# Altium footprint library CORE28335.PcbLib: 24 footprints (part 1 of 2)
Each footprint in its own frame and in the unit in brackets; x right, y up, seen from the top. Pads: shape width x height; smd on the part's side, far side on the other; paste and mask are expansions set on the pad; w line width, h text height; cw(c..) or ccw(c..) is an arc to the next point about the centre after c.
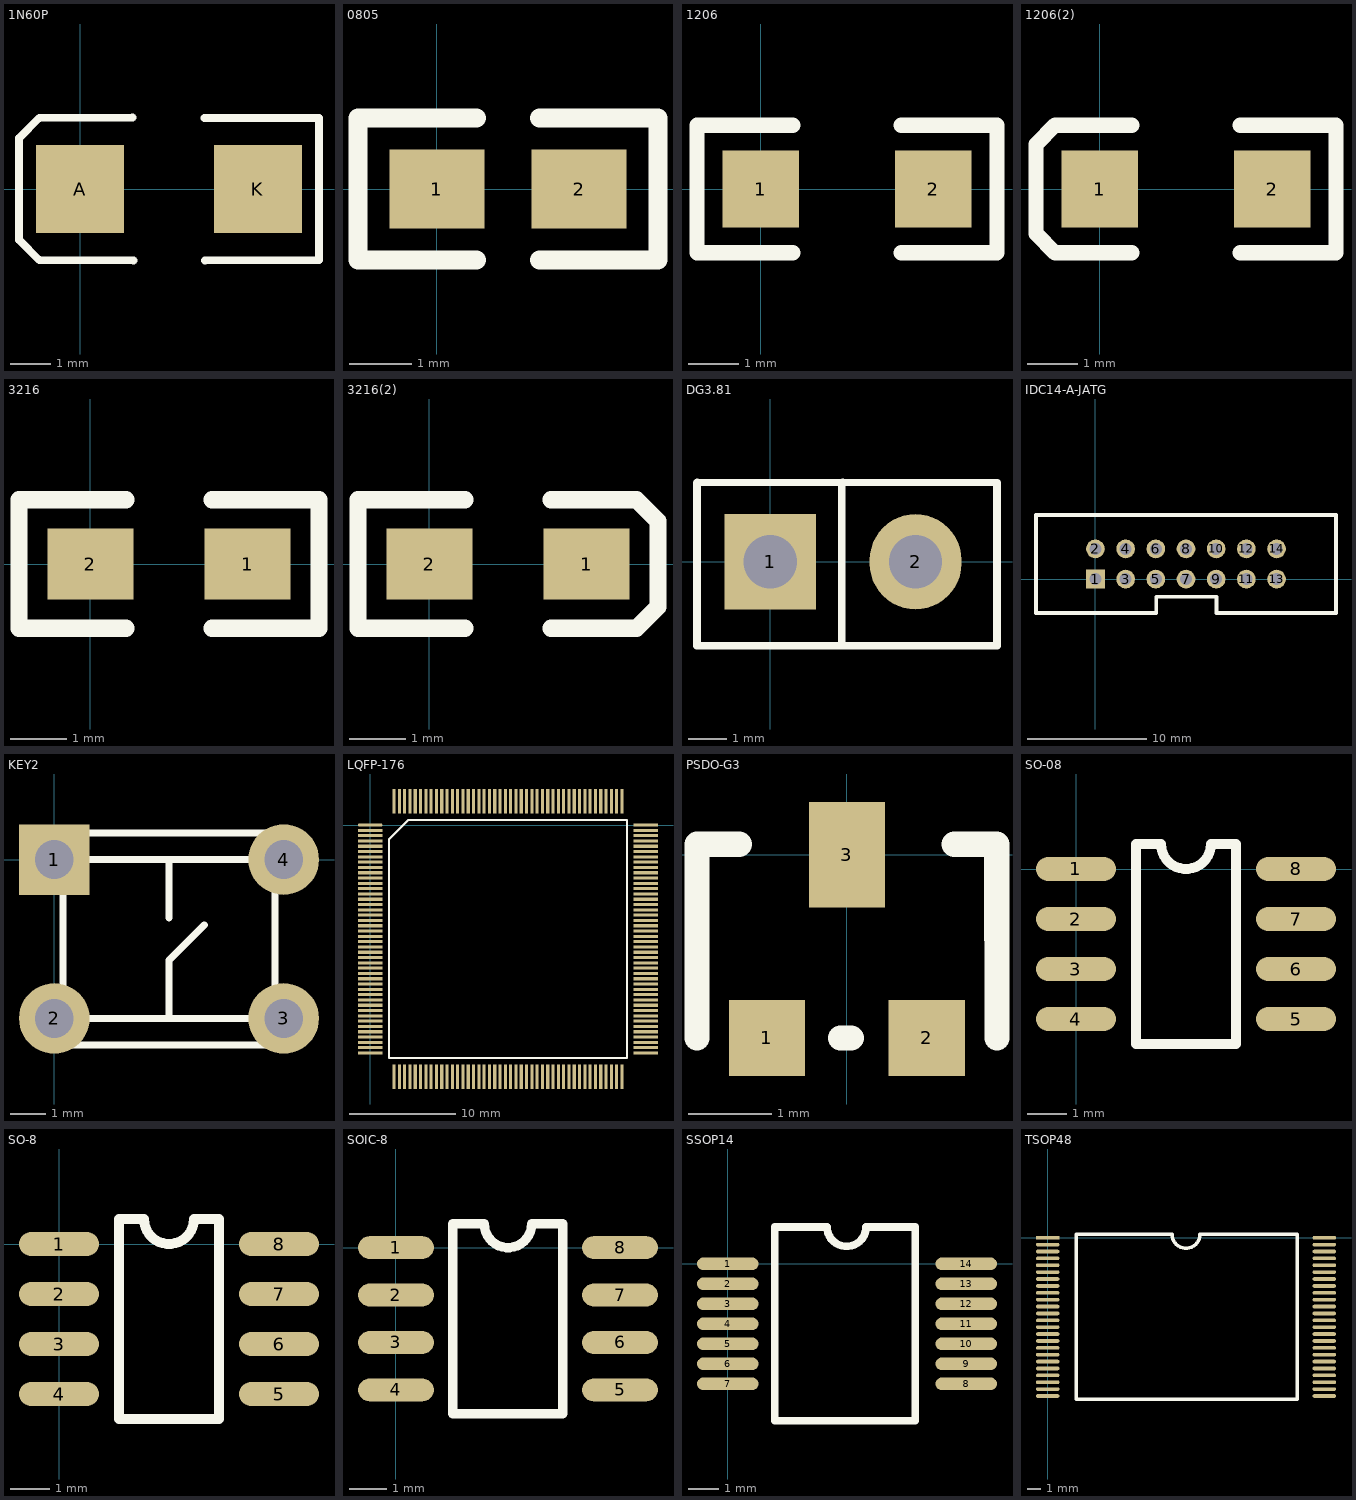
[diagram p0: the footprints below, top view; thin cyan lines are the x and y axes]

## 1N60P [mm]
pads (2):
  rect 2.2x2.2 smd: A(0,0) K(4.445,0)
Top Overlay:
  lines w0.2: 1.31,1.78 -1.016,1.778 -1.524,1.27 -1.524,-1.27 -1.016,-1.778 1.34,-1.78 ; 3.11,1.77 5.97,1.77 5.969,-1.778 3.12,-1.78

## 0805 [mil]
pads (2):
  rect 60x50 smd: 1(0,0.28) 2(90,0.28)
Top Overlay:
  lines w12: 25,-44.72 -50,-44.72 -50,45.28 25,45.28 ; 65,-44.72 140,-44.72 140,45.28 65,45.28

## 1206 [mil]
pads (2):
  rect 60x60 smd: 1(0,0.01) 2(135,0.01)
Top Overlay:
  lines w12: 25,-49.99 -50,-49.99 -50,50.01 25,50.01 ; 110,-49.99 185,-49.99 185,50.01 110,50.01

## 1206(2) [mil]
pads (2):
  rect 60x60 smd: 1(0,0.01) 2(135,0.01)
Top Overlay:
  lines w12: 25,-49.99 -20,-49.99 -35,-49.99 -50,-34.99 -50,35.01 -35,50.01 -20,50.01 25,50.01 ; 110,-49.99 185,-49.99 185,50.01 110,50.01

## 3216 [mil]
pads (2):
  rect 60x50 smd: 1(110,0.01) 2(0,0.01)
Top Overlay:
  lines w12: 25,-44.99 -50,-44.99 -50,45.01 25,45.01 ; 85,-44.99 160,-44.99 160,45.01 85,45.01

## 3216(2) [mil]
pads (2):
  rect 60x50 smd: 1(110,0.01) 2(0,0.01)
Top Overlay:
  lines w12: 25,-44.99 -50,-44.99 -50,45.01 25,45.01 ; 85,-44.99 145,-44.99 160,-29.99 160,30.01 145,45.01 85,45.01

## DG3.81 [mm]
pads (2):
  rect 2.4x2.5 hole 1.397: 1(0,0)
  oval 2.4x2.5 hole 1.397: 2(3.81,0)
Top Overlay:
  lines w0.2: 1.875,-2.2 1.875,2.06 1.9,2.085 ; -1.915,-2.2 5.944,-2.2 5.944,2.075 -1.905,2.085 -1.915,2.075 -1.915,-2.2

## IDC14-A-JATG [mil]
pads (14):
  rect 62x62 hole 40: 1(0.13,0.01)
  round 62 hole 40: 2(0.13,100.01) 3(100.13,0.01) 4(100.13,100.01) 5(200.13,0.01) 6(200.13,100.01) 7(300.13,0.01) 8(300.13,100.01) 9(400.13,0.01) 10(400.13,100.01) 11(500.13,0.01) 12(500.13,100.01) 13(600.13,0.01) 14(600.13,100.01)
Top Overlay:
  lines w12: -196.72,-112.2 -196.72,212.21 796.98,212.21 796.98,-112.2 401.13,-112.2 401.33,-59.05 201.33,-59.05 201.33,-112.2 -196.72,-112.2

## KEY2 [mm]
pads (4):
  rect 2x2 hole 1.1: 1(0,0)
  round 2 hole 1.1: 2(0,-4.5) 3(6.5,-4.5) 4(6.5,0)
Top Overlay:
  lines w0.203: 0,-4.5 6.5,-4.5 ; 0,0 6.5,0 ; 3.25,-4.5 3.25,-3.15 3.25,-2.85 4.25,-1.85 ; 3.25,-1.65 3.25,0 ; 0.25,-5.25 6.25,-5.25 6.25,0.75 0.25,0.75 0.25,-5.25

## LQFP-176 [mm]
pads (176):
  oval 2.3x0.3 smd: 1(0,0)
  rect 2.3x0.3 smd: 2(0,-0.5) 3(0,-1) 4(0,-1.5) 5(0,-2) 6(0,-2.5) 7(0,-3) 8(0,-3.5) 9(0,-4) 10(0,-4.5) 11(0,-5) 12(0,-5.5) 13(0,-6) 14(0,-6.5) 15(0,-7) 16(0,-7.5) 17(0,-8) 18(0,-8.5) 19(0,-9) 20(0,-9.5) 21(0,-10) 22(0,-10.5) 23(0,-11) 24(0,-11.5) 25(0,-12) 26(0,-12.5) 27(0,-13) 28(0,-13.5) 29(0,-14) 30(0,-14.5) 31(0,-15) 32(0,-15.5) 33(0,-16) 34(0,-16.5) 35(0,-17) 36(0,-17.5) 37(0,-18) 38(0,-18.5) 39(0,-19) 40(0,-19.5) 41(0,-20) 42(0,-20.5) 43(0,-21) 44(0,-21.5) 89(26,-21.5) 90(26,-21) 91(26,-20.5) 92(26,-20) 93(26,-19.5) 94(26,-19) 95(26,-18.5) 96(26,-18) 97(26,-17.5) 98(26,-17) 99(26,-16.5) 100(26,-16) 101(26,-15.5) 102(26,-15) 103(26,-14.5) 104(26,-14) 105(26,-13.5) 106(26,-13) 107(26,-12.5) 108(26,-12) 109(26,-11.5) 110(26,-11) 111(26,-10.5) 112(26,-10) 113(26,-9.5) 114(26,-9) 115(26,-8.5) 116(26,-8) 117(26,-7.5) 118(26,-7) 119(26,-6.5) 120(26,-6) 121(26,-5.5) 122(26,-5) 123(26,-4.5) 124(26,-4) 125(26,-3.5) 126(26,-3) 127(26,-2.5) 128(26,-2) 129(26,-1.5) 130(26,-1) 131(26,-0.5) 132(26,0)
  rect 0.3x2.3 smd: 45(2.25,-23.75) 46(2.75,-23.75) 47(3.25,-23.75) 48(3.75,-23.75) 49(4.25,-23.75) 50(4.75,-23.75) 51(5.25,-23.75) 52(5.75,-23.75) 53(6.25,-23.75) 54(6.75,-23.75) 55(7.25,-23.75) 56(7.75,-23.75) 57(8.25,-23.75) 58(8.75,-23.75) 59(9.25,-23.75) 60(9.75,-23.75) 61(10.25,-23.75) 62(10.75,-23.75) 63(11.25,-23.75) 64(11.75,-23.75) 65(12.25,-23.75) 66(12.75,-23.75) 67(13.25,-23.75) 68(13.75,-23.75) 69(14.25,-23.75) 70(14.75,-23.75) 71(15.25,-23.75) 72(15.75,-23.75) 73(16.25,-23.75) 74(16.75,-23.75) 75(17.25,-23.75) 76(17.75,-23.75) 77(18.25,-23.75) 78(18.75,-23.75) 79(19.25,-23.75) 80(19.75,-23.75) 81(20.25,-23.75) 82(20.75,-23.75) 83(21.25,-23.75) 84(21.75,-23.75) 85(22.25,-23.75) 86(22.75,-23.75) 87(23.25,-23.75) 88(23.75,-23.75) 133(23.75,2.25) 134(23.25,2.25) 135(22.75,2.25) 136(22.25,2.25) 137(21.75,2.25) 138(21.25,2.25) 139(20.75,2.25) 140(20.25,2.25) 141(19.75,2.25) 142(19.25,2.25) 143(18.75,2.25) 144(18.25,2.25) 145(17.75,2.25) 146(17.25,2.25) 147(16.75,2.25) 148(16.25,2.25) 149(15.75,2.25) 150(15.25,2.25) 151(14.75,2.25) 152(14.25,2.25) 153(13.75,2.25) 154(13.25,2.25) 155(12.75,2.25) 156(12.25,2.25) 157(11.75,2.25) 158(11.25,2.25) 159(10.75,2.25) 160(10.25,2.25) 161(9.75,2.25) 162(9.25,2.25) 163(8.75,2.25) 164(8.25,2.25) 165(7.75,2.25) 166(7.25,2.25) 167(6.75,2.25) 168(6.25,2.25) 169(5.75,2.25) 170(5.25,2.25) 171(4.75,2.25) 172(4.25,2.25) 173(3.75,2.25) 174(3.25,2.25) 175(2.75,2.25) 176(2.25,2.25)
Top Overlay:
  lines w0.2: 1.785,-21.965 24.215,-21.965 24.215,0.465 3.57,0.465 1.785,-1.32 1.785,-21.965

## PSDO-G3 [mil]
pads (3):
  rect 36x36 smd: 1(-37.8,-86.61) 2(37.8,-86.61)
  rect 36x50 smd: 3(0,0)
Top Overlay:
  lines w12: -70.87,-86.61 -70.87,5 -50.87,5 ; -3,-86.61 2,-86.61 ; 50.87,5 70.87,5 71,-86.61

## SO-08 [mil]
pads (8):
  oval 80x24 smd: 1(-0.28,0.28) 2(-0.28,-49.72) 3(-0.28,-99.72) 4(-0.28,-149.72) 5(219.72,-149.72) 6(219.72,-99.72) 7(219.72,-49.72) 8(219.72,0.28)
Top Overlay:
  lines w10: 59.73,-174.72 159.72,-174.72 159.72,25.28 134.72,25.28 cw(c109.72,25.28) 84.72,25.28 59.73,25.28 59.73,-174.72

## SO-8 [mil]
pads (8):
  oval 80x24 smd: 1(0,0) 2(0,-50) 3(0,-100) 4(0,-150) 5(220,-150) 6(220,-100) 7(220,-50) 8(220,0)
Top Overlay:
  lines w10: 60,-175 60,25 85,25 ccw(c110,25) 135,25 160,25 160,-175 60,-175

## SOIC-8 [mil]
pads (8):
  oval 80x24 smd: 1(0,0.28) 2(0,-49.72) 3(0,-99.72) 4(0,-149.72) 5(236.22,-149.72) 6(236.22,-99.72) 7(236.22,-49.72) 8(236.22,0.28)
Top Overlay:
  lines w10: 60,-174.72 176,-174.72 176,25.28 143.11,25.28 cw(c118.11,25.28) 93.11,25.28 60,25.28 60,-174.72

## SSOP14 [mm]
pads (14):
  oval 2x0.406 smd: 1(0,0) 2(0,-0.65) 3(0,-1.3) 4(0,-1.95) 5(0,-2.6) 6(0,-3.25) 7(0,-3.9) 8(7.75,-3.9) 9(7.75,-3.25) 10(7.75,-2.6) 11(7.75,-1.95) 12(7.75,-1.3) 13(7.75,-0.65) 14(7.75,0)
Top Overlay:
  lines w0.254: 1.524,-5.1 1.524,1.2 3.226,1.2 ccw(c3.861,1.2) 4.496,1.2 6.096,1.2 6.096,-5.1 1.524,-5.1

## TSOP48 [mm]
pads (48):
  rect 1.7x0.269 smd: 1(0,0)
  oval 1.7x0.269 smd: 2(0,-0.5) 3(0,-1) 4(0,-1.5) 5(0,-2) 6(0,-2.5) 7(0,-3) 8(0,-3.5) 9(0,-4) 10(0,-4.5) 11(0,-5) 12(0,-5.5) 13(0,-6) 14(0,-6.5) 15(0,-7) 16(0,-7.5) 17(0,-8) 18(0,-8.5) 19(0,-9) 20(0,-9.5) 21(0,-10) 22(0,-10.5) 23(0,-11) 24(0,-11.5) 25(20.1,-11.5) 26(20.1,-11) 27(20.1,-10.5) 28(20.1,-10) 29(20.1,-9.5) 30(20.1,-9) 31(20.1,-8.5) 32(20.1,-8) 33(20.1,-7.5) 34(20.1,-7) 35(20.1,-6.5) 36(20.1,-6) 37(20.1,-5.5) 38(20.1,-5) 39(20.1,-4.5) 40(20.1,-4) 41(20.1,-3.5) 42(20.1,-3) 43(20.1,-2.5) 44(20.1,-2) 45(20.1,-1.5) 46(20.1,-1) 47(20.1,-0.5) 48(20.1,0)
Top Overlay:
  lines w0.254: 2.085,-11.75 2.085,0.25 9.034,0.25 ccw(c10.05,0.25) 11.066,0.25 18.142,0.25 18.142,-11.75 2.085,-11.75